# Altium integrated library Microchip PIC16 Part 1.IntLib: 1800 symbols (part 60 of 93)
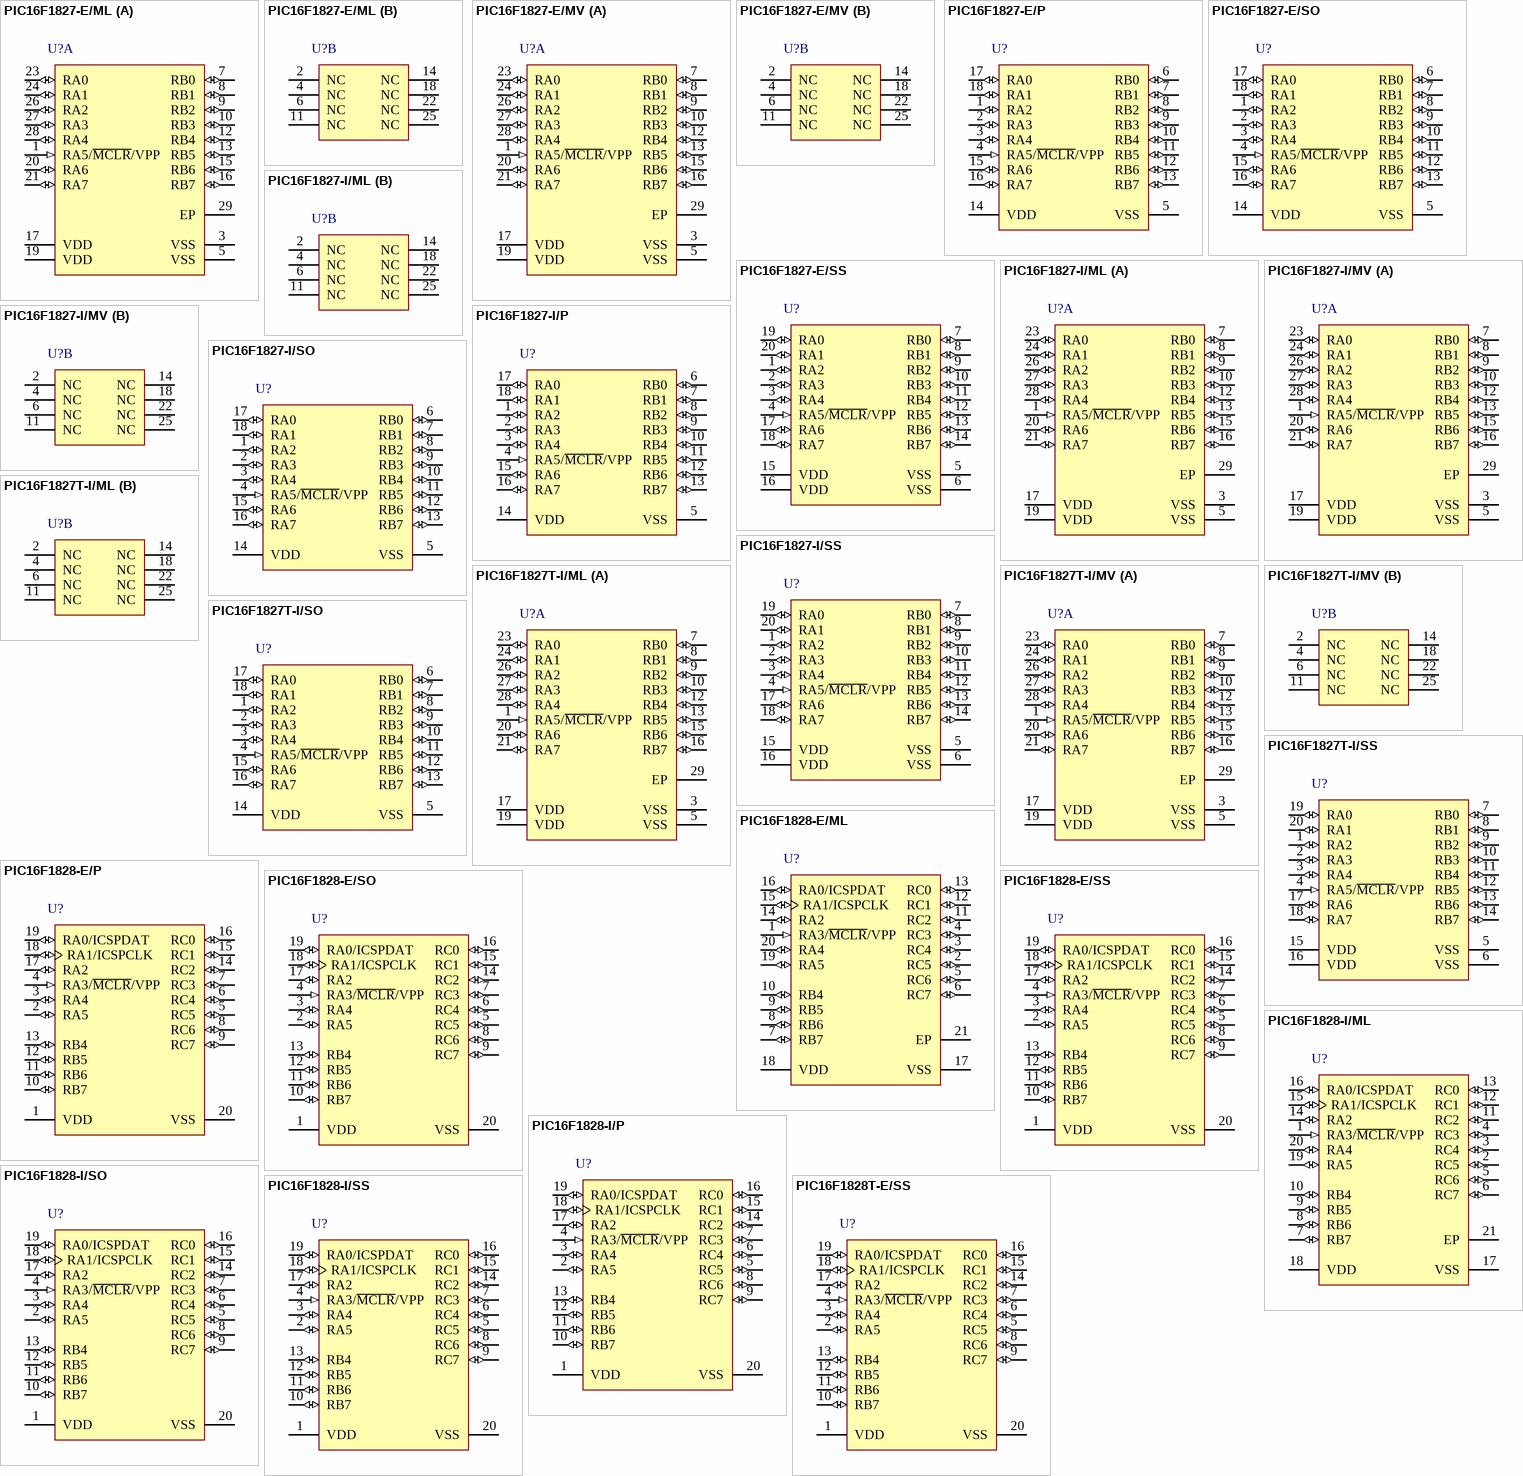
[diagram p158: symbols PIC16F1827-E/ML to PIC16F1828T-E/SS]

## PIC16F1827-I/P
designator U?
Flash Microcontroller with nanoWatt XLP Technology, 32 MHz, 15 I/O, -40 to 85 degC, 18-pin PDIP (P18), Tube; Manufacturer: Microchip; PartNumber: PIC16F1827-I/P; # of A/D Channels: 12; Digital Communication: 1 -A/E/USART, 2 -MSSP(SPI/I2C); EEPROM Data Memory (bytes): 256; I/O Pins: 15; Internal Oscillator: 32 MHz, 31 kHz; Max. CPU Speed MHz: 32; Operation Voltage Range: 1.8V - 5.5V; Program Memory KBytes: 7; Program Memory KWords: 4; RAM: 384; Timers: 4 - 8-bit, 1 - 16-bit; DatasheetVersion: Rev. D; PackageVersion: C04-007B, 12/2012; PackageReference: PDIP-P18; PackageDescription: 18-Lead Plastic Dual In-Line, Row Spacing 7.62 mm, 22.86 x 6.6 mm Body, 2.54 mm Pitch; Supplier 1: Digi-Key; Supplier Part Number 1: PIC16F1827-I/P-ND; Supplier 2: Farnell; Supplier Part Number 2: 1778449; Supplier 3: Newark; Supplier Part Number 3: 24R7078; Supplier 4: Mouser; Supplier Part Number 4: 579-PIC16F1827-I/P; Memory Type: Flash; Packing: TUBE; RoHS: TRUE; Mounting Technology: Through Hole; ComponentLink1Description: Datasheet; ComponentLink1URL: http://ww1.microchip.com/downloads/en/DeviceDoc/41391D.pdf; ComponentLink2Description: Package Specification; ComponentLink2URL: http://www.microchip.com/stellent/groups/techpub_sg/documents/packagingspec/en012702.pdf; ComponentLink3Description: URL Link1; ComponentLink3URL: Product URL:http://www.microchip.com/datasheet/PIC16F1827
footprint MCHP-PDIP-P18 (DIP, 18-Leads, Body 22.83x6.604mm, Pitch 2.54mm)
pins: 1 RA2 (io), 2 RA3 (io), 3 RA4 (io), 4 RA5/~{MCLR}/VPP (in), 5 VSS (power) "Ground reference.", 6 RB0 (io), 7 RB1 (io), 8 RB2 (io), 9 RB3 (io), 10 RB4 (io), 11 RB5 (io), 12 RB6 (io), 13 RB7 (io), 14 VDD (power) "Positive supply.", 15 RA6 (io), 16 RA7 (io), 17 RA0 (io), 18 RA1 (io)

## PIC16F1827-I/SO
designator U?
Flash Microcontroller with nanoWatt XLP Technology, 32 MHz, 15 I/O, -40 to 85 degC, 18-pin SOIC (SO18), Tube; Manufacturer: Microchip; PartNumber: PIC16F1827-I/SO; # of A/D Channels: 12; Digital Communication: 1 -A/E/USART, 2 -MSSP(SPI/I2C); EEPROM Data Memory (bytes): 256; I/O Pins: 15; Internal Oscillator: 32 MHz, 31 kHz; Max. CPU Speed MHz: 32; Operation Voltage Range: 1.8V - 5.5V; Program Memory KBytes: 7; Program Memory KWords: 4; RAM: 384; Timers: 4 - 8-bit, 1 - 16-bit; DatasheetVersion: Rev. D; PackageVersion: C04-051C, 12/2012; PackageReference: SOIC-SO18; PackageDescription: 18-Lead Plastic Small Outline, 7.5 x 11.55 mm Body, 1.27 mm Pitch; Supplier 1: Digi-Key; Supplier Part Number 1: PIC16F1827-I/SO-ND; Supplier 2: Farnell; Supplier Part Number 2: 1778450; Supplier 3: Newark; Supplier Part Number 3: 52R6172; Supplier 4: Newark; Supplier Part Number 4: 24R7079; Supplier 5: Mouser; Supplier Part Number 5: 579-PIC16F1827-I/SO; Memory Type: Flash; Packing: TUBE; RoHS: TRUE; Mounting Technology: Surface Mount; ComponentLink1Description: Datasheet; ComponentLink1URL: http://ww1.microchip.com/downloads/en/DeviceDoc/41391D.pdf; ComponentLink2Description: Package Specification; ComponentLink2URL: http://www.microchip.com/stellent/groups/techpub_sg/documents/packagingspec/en012702.pdf; ComponentLink3Description: URL Link1; ComponentLink3URL: Product URL:http://www.microchip.com/datasheet/PIC16F1827
footprint MCHP-SOIC-SO18_N (SOIC, 18-Leads, Body 11.55x7.5mm, Pitch 1.27mm, IPC Medium Density)
footprint MCHP-SOIC-SO18_L (SOIC, 18-Leads, Body 11.55x7.5mm, Pitch 1.27mm, IPC High Density)
footprint MCHP-SOIC-SO18_M (SOIC, 18-Leads, Body 11.55x7.5mm, Pitch 1.27mm, IPC Low Density)
pins: 1 RA2 (io), 2 RA3 (io), 3 RA4 (io), 4 RA5/~{MCLR}/VPP (in), 5 VSS (power) "Ground reference.", 6 RB0 (io), 7 RB1 (io), 8 RB2 (io), 9 RB3 (io), 10 RB4 (io), 11 RB5 (io), 12 RB6 (io), 13 RB7 (io), 14 VDD (power) "Positive supply.", 15 RA6 (io), 16 RA7 (io), 17 RA0 (io), 18 RA1 (io)

## PIC16F1827-I/SS
designator U?
Flash Microcontroller with nanoWatt XLP Technology, 32 MHz, 15 I/O, -40 to 85 degC, 20-pin SSOP (SS20), Tube; Manufacturer: Microchip; PartNumber: PIC16F1827-I/SS; # of A/D Channels: 12; Digital Communication: 1 -A/E/USART, 2 -MSSP(SPI/I2C); EEPROM Data Memory (bytes): 256; I/O Pins: 15; Internal Oscillator: 32 MHz, 31 kHz; Max. CPU Speed MHz: 32; Operation Voltage Range: 1.8V - 5.5V; Program Memory KBytes: 7; Program Memory KWords: 4; RAM: 384; Timers: 4 - 8-bit, 1 - 16-bit; DatasheetVersion: Rev. D; PackageVersion: C04-072B, 12/2012; PackageReference: SSOP-SS20; PackageDescription: 20-Lead Plastic Shrink Small Outline, 5.3 x 7.2 mm Body, 0.65 mm Pitch; Supplier 1: Digi-Key; Supplier Part Number 1: PIC16F1827-I/SS-ND; Supplier 2: Farnell; Supplier Part Number 2: 1778451; Supplier 3: Newark; Supplier Part Number 3: 24R7080; Supplier 4: Mouser; Supplier Part Number 4: 579-PIC16F1827-I/SS; Memory Type: Flash; Packing: TUBE; RoHS: TRUE; Mounting Technology: Surface Mount; ComponentLink1Description: Datasheet; ComponentLink1URL: http://ww1.microchip.com/downloads/en/DeviceDoc/41391D.pdf; ComponentLink2Description: Package Specification; ComponentLink2URL: http://www.microchip.com/stellent/groups/techpub_sg/documents/packagingspec/en012702.pdf; ComponentLink3Description: URL Link1; ComponentLink3URL: Product URL:http://www.microchip.com/datasheet/PIC16F1827
footprint MCHP-SSOP-SS20_N (SOP, 20-Leads, Body 7.2x5.3mm, Pitch 0.65mm, IPC Medium Density)
footprint MCHP-SSOP-SS20_L (SOP, 20-Leads, Body 7.2x5.3mm, Pitch 0.65mm, IPC High Density)
footprint MCHP-SSOP-SS20_M (SOP, 20-Leads, Body 7.2x5.3mm, Pitch 0.65mm, IPC Low Density)
pins: 1 RA2 (io), 2 RA3 (io), 3 RA4 (io), 4 RA5/~{MCLR}/VPP (in), 5 VSS (power) "Ground reference", 6 VSS (power) "Ground reference", 7 RB0 (io), 8 RB1 (io), 9 RB2 (io), 10 RB3 (io), 11 RB4 (io), 12 RB5 (io), 13 RB6 (io), 14 RB7 (io), 15 VDD (power) "Positive supply", 16 VDD (power) "Positive supply", 17 RA6 (io), 18 RA7 (io), 19 RA0 (io), 20 RA1 (io)

## PIC16F1827T-I/ML
designator U?
Flash Microcontroller with nanoWatt XLP Technology, 32 MHz, 15 I/O, -40 to 85 degC, 28-pin QFN (ML28), Tape and Reel; Manufacturer: Microchip; PartNumber: PIC16F1827T-I/ML; # of A/D Channels: 12; Digital Communication: 1 -A/E/USART, 2 -MSSP(SPI/I2C); EEPROM Data Memory (bytes): 256; I/O Pins: 15; Internal Oscillator: 32 MHz, 31 kHz; Max. CPU Speed MHz: 32; Operation Voltage Range: 1.8V - 5.5V; Packing: T/R; Program Memory KBytes: 7; Program Memory KWords: 4; RAM: 384; Timers: 4 - 8-bit, 1 - 16-bit; DatasheetVersion: Rev. D; PackageVersion: C04-105C, 12/2012; PackageReference: QFN-ML28; PackageDescription: 28-Lead Plastic Quad Flat, 6 x 6 mm Body, 0.65 mm Pitch; Supplier 1: Digi-Key; Supplier Part Number 1: PIC16F1827T-I/ML-ND; Supplier 2: Mouser; Supplier Part Number 2: 579-PIC16F1827T-I/ML; Memory Type: Flash; RoHS: TRUE; Mounting Technology: Surface Mount; ComponentLink1Description: Datasheet; ComponentLink1URL: http://ww1.microchip.com/downloads/en/DeviceDoc/41391D.pdf; ComponentLink2Description: Package Specification; ComponentLink2URL: http://www.microchip.com/stellent/groups/techpub_sg/documents/packagingspec/en012702.pdf; ComponentLink3Description: URL Link1; ComponentLink3URL: Product URL:http://www.microchip.com/datasheet/PIC16F1827
footprint MCHP-QFN-ML28_N (QFN, 28-Leads, Body 6x6mm, Pitch 0.65mm, Thermal Pad 3.7x3.7mm, IPC Medium Density)
footprint MCHP-QFN-ML28_L (QFN, 28-Leads, Body 6x6mm, Pitch 0.65mm, Thermal Pad 3.7x3.7mm, IPC High Density)
footprint MCHP-QFN-ML28_M (QFN, 28-Leads, Body 6x6mm, Pitch 0.65mm, Thermal Pad 3.7x3.7mm, IPC Low Density)
part A pins: 1 RA5/~{MCLR}/VPP (in), 3 VSS (power) "Ground reference", 5 VSS (power) "Ground reference", 7 RB0 (io), 8 RB1 (io), 9 RB2 (io), 10 RB3 (io), 12 RB4 (io), 13 RB5 (io), 15 RB6 (io), 16 RB7 (io), 17 VDD (power) "Positive supply", 19 VDD (power) "Positive supply", 20 RA6 (io), 21 RA7 (io), 23 RA0 (io), 24 RA1 (io), 26 RA2 (io), 27 RA3 (io), 28 RA4 (io), 29 EP
part B pins: 2 NC, 4 NC, 6 NC, 11 NC, 14 NC, 18 NC, 22 NC, 25 NC

## PIC16F1827T-I/MV
designator U?
Flash Microcontroller with nanoWatt XLP Technology, 32 MHz, 15 I/O, -40 to 85 degC, 28-pin UQFN (MV28), Tape and Reel; Manufacturer: Microchip; PartNumber: PIC16F1827T-I/MV; # of A/D Channels: 12; Digital Communication: 1 -A/E/USART, 2 -MSSP(SPI/I2C); EEPROM Data Memory (bytes): 256; I/O Pins: 15; Internal Oscillator: 32 MHz, 31 kHz; Max. CPU Speed MHz: 32; Operation Voltage Range: 1.8V - 5.5V; Packing: T/R; Program Memory KBytes: 7; Program Memory KWords: 4; RAM: 384; Timers: 4 - 8-bit, 1 - 16-bit; DatasheetVersion: Rev. D; PackageVersion: C04-152A, 04/2013; PackageReference: UQFN-MV28; PackageDescription: 28-Lead Plastic Ultra Thin Quad Flat, Body 4 x 4 mm, Pitch 0.4 mm; Supplier 1: Digi-Key; Supplier Part Number 1: PIC16F1827T-I/MV-ND; Supplier 2: Mouser; Supplier Part Number 2: 579-PIC16F1827T-I/MV; Memory Type: Flash; RoHS: TRUE; Mounting Technology: Surface Mount; ComponentLink1Description: Datasheet; ComponentLink1URL: http://ww1.microchip.com/downloads/en/DeviceDoc/41391D.pdf; ComponentLink2Description: Package Specification; ComponentLink2URL: http://www.microchip.com/stellent/groups/techpub_sg/documents/packagingspec/en012702.pdf; ComponentLink3Description: URL Link1; ComponentLink3URL: Product URL:http://www.microchip.com/datasheet/PIC16F1827
footprint MCHP-UQFN-MV28_N (QFN, 28-Leads, Body 4x4mm, Pitch 0.4mm, Thermal Pad 2.65x2.65mm, IPC Medium Density)
footprint MCHP-UQFN-MV28_L (QFN, 28-Leads, Body 4x4mm, Pitch 0.4mm, Thermal Pad 2.65x2.65mm, IPC High Density)
footprint MCHP-UQFN-MV28_M (QFN, 28-Leads, Body 4x4mm, Pitch 0.4mm, Thermal Pad 2.65x2.65mm, IPC Low Density)
part A pins: 1 RA5/~{MCLR}/VPP (in), 3 VSS (power) "Ground reference", 5 VSS (power) "Ground reference", 7 RB0 (io), 8 RB1 (io), 9 RB2 (io), 10 RB3 (io), 12 RB4 (io), 13 RB5 (io), 15 RB6 (io), 16 RB7 (io), 17 VDD (power) "Positive supply", 19 VDD (power) "Positive supply", 20 RA6 (io), 21 RA7 (io), 23 RA0 (io), 24 RA1 (io), 26 RA2 (io), 27 RA3 (io), 28 RA4 (io), 29 EP
part B pins: 2 NC, 4 NC, 6 NC, 11 NC, 14 NC, 18 NC, 22 NC, 25 NC

## PIC16F1827T-I/SO
designator U?
Flash Microcontroller with nanoWatt XLP Technology, 32 MHz, 15 I/O, -40 to 85 degC, 18-pin SOIC (SO18), Tape and Reel; Manufacturer: Microchip; PartNumber: PIC16F1827T-I/SO; # of A/D Channels: 12; Digital Communication: 1 -A/E/USART, 2 -MSSP(SPI/I2C); EEPROM Data Memory (bytes): 256; I/O Pins: 15; Internal Oscillator: 32 MHz, 31 kHz; Max. CPU Speed MHz: 32; Operation Voltage Range: 1.8V - 5.5V; Packing: T/R; Program Memory KBytes: 7; Program Memory KWords: 4; RAM: 384; Timers: 4 - 8-bit, 1 - 16-bit; DatasheetVersion: Rev. D; PackageVersion: C04-051C, 12/2012; PackageReference: SOIC-SO18; PackageDescription: 18-Lead Plastic Small Outline, 7.5 x 11.55 mm Body, 1.27 mm Pitch; Supplier 1: Digi-Key; Supplier Part Number 1: PIC16F1827T-I/SO-ND; Supplier 2: Mouser; Supplier Part Number 2: 579-PIC16F1827T-I/SO; Memory Type: Flash; RoHS: TRUE; Mounting Technology: Surface Mount; ComponentLink1Description: Datasheet; ComponentLink1URL: http://ww1.microchip.com/downloads/en/DeviceDoc/41391D.pdf; ComponentLink2Description: Package Specification; ComponentLink2URL: http://www.microchip.com/stellent/groups/techpub_sg/documents/packagingspec/en012702.pdf; ComponentLink3Description: URL Link1; ComponentLink3URL: Product URL:http://www.microchip.com/datasheet/PIC16F1827
footprint MCHP-SOIC-SO18_N (SOIC, 18-Leads, Body 11.55x7.5mm, Pitch 1.27mm, IPC Medium Density)
footprint MCHP-SOIC-SO18_L (SOIC, 18-Leads, Body 11.55x7.5mm, Pitch 1.27mm, IPC High Density)
footprint MCHP-SOIC-SO18_M (SOIC, 18-Leads, Body 11.55x7.5mm, Pitch 1.27mm, IPC Low Density)
pins: 1 RA2 (io), 2 RA3 (io), 3 RA4 (io), 4 RA5/~{MCLR}/VPP (in), 5 VSS (power) "Ground reference.", 6 RB0 (io), 7 RB1 (io), 8 RB2 (io), 9 RB3 (io), 10 RB4 (io), 11 RB5 (io), 12 RB6 (io), 13 RB7 (io), 14 VDD (power) "Positive supply.", 15 RA6 (io), 16 RA7 (io), 17 RA0 (io), 18 RA1 (io)

## PIC16F1827T-I/SS
designator U?
Flash Microcontroller with nanoWatt XLP Technology, 32 MHz, 15 I/O, -40 to 85 degC, 20-pin SSOP (SS20), Tape and Reel; Manufacturer: Microchip; PartNumber: PIC16F1827T-I/SS; # of A/D Channels: 12; Digital Communication: 1 -A/E/USART, 2 -MSSP(SPI/I2C); EEPROM Data Memory (bytes): 256; I/O Pins: 15; Internal Oscillator: 32 MHz, 31 kHz; Max. CPU Speed MHz: 32; Operation Voltage Range: 1.8V - 5.5V; Packing: T/R; Program Memory KBytes: 7; Program Memory KWords: 4; RAM: 384; Timers: 4 - 8-bit, 1 - 16-bit; DatasheetVersion: Rev. D; PackageVersion: C04-072B, 12/2012; PackageReference: SSOP-SS20; PackageDescription: 20-Lead Plastic Shrink Small Outline, 5.3 x 7.2 mm Body, 0.65 mm Pitch; Supplier 1: Digi-Key; Supplier Part Number 1: PIC16F1827T-I/SS-ND; Supplier 2: Newark; Supplier Part Number 2: 24R7084; Supplier 3: Mouser; Supplier Part Number 3: 579-PIC16F1827T-I/SS; Memory Type: Flash; RoHS: TRUE; Mounting Technology: Surface Mount; ComponentLink1Description: Datasheet; ComponentLink1URL: http://ww1.microchip.com/downloads/en/DeviceDoc/41391D.pdf; ComponentLink2Description: Package Specification; ComponentLink2URL: http://www.microchip.com/stellent/groups/techpub_sg/documents/packagingspec/en012702.pdf; ComponentLink3Description: URL Link1; ComponentLink3URL: Product URL:http://www.microchip.com/datasheet/PIC16F1827
footprint MCHP-SSOP-SS20_N (SOP, 20-Leads, Body 7.2x5.3mm, Pitch 0.65mm, IPC Medium Density)
footprint MCHP-SSOP-SS20_L (SOP, 20-Leads, Body 7.2x5.3mm, Pitch 0.65mm, IPC High Density)
footprint MCHP-SSOP-SS20_M (SOP, 20-Leads, Body 7.2x5.3mm, Pitch 0.65mm, IPC Low Density)
pins: 1 RA2 (io), 2 RA3 (io), 3 RA4 (io), 4 RA5/~{MCLR}/VPP (in), 5 VSS (power) "Ground reference", 6 VSS (power) "Ground reference", 7 RB0 (io), 8 RB1 (io), 9 RB2 (io), 10 RB3 (io), 11 RB4 (io), 12 RB5 (io), 13 RB6 (io), 14 RB7 (io), 15 VDD (power) "Positive supply", 16 VDD (power) "Positive supply", 17 RA6 (io), 18 RA7 (io), 19 RA0 (io), 20 RA1 (io)

## PIC16F1828-E/ML
designator U?
Flash Microcontroller with XLP Technology, 32 MHz, 17 I/O, -40 to 125 degC, 20-pin QFN (ML20), Tube; Manufacturer: Microchip; PartNumber: PIC16F1828-E/ML; # of A/D Channels: 12; Digital Communication: 1 -A/E/USART, 1 -MSSP(SPI/I2C); EEPROM Data Memory (bytes): 256; I/O Pins: 17; Internal Oscillator: 32 MHz, 31 kHz; Max. CPU Speed MHz: 32; Operation Voltage Range: 1.8V - 5.5V; Program Memory KBytes: 7; Program Memory KWords: 4; Timers: 4 - 8-bit, 1 - 16-bit; DatasheetVersion: Rev. D; PackageVersion: C04-126B, 12/2012; PackageReference: QFN-ML20; PackageDescription: 20-Lead Plastic Quad Flat, No Lead Package, 4 x 4 mm Body, 0.5 mm Pitch; Supplier 1: Digi-Key; Supplier Part Number 1: PIC16F1828-E/ML-ND; Supplier 2: Newark; Supplier Part Number 2: 73R8378; Supplier 3: Mouser; Supplier Part Number 3: 579-PIC16F1828EML; Memory Type: Flash; Packing: TUBE; RAM: 256; RoHS: TRUE; Mounting Technology: Surface Mount; ComponentLink1Description: Datasheet; ComponentLink1URL: http://ww1.microchip.com/downloads/en/DeviceDoc/41419D.pdf; ComponentLink2Description: Package Specification; ComponentLink2URL: http://www.microchip.com/stellent/groups/techpub_sg/documents/packagingspec/en012702.pdf; ComponentLink3Description: URL Link1; ComponentLink3URL: Product URL:http://www.microchip.com/datasheet/PIC16F1828
footprint MCHP-QFN-ML20_N (QFN, 20-Leads, Body 4x4mm, Pitch 0.5mm, Thermal Pad 2.7x2.7mm, IPC Medium Density)
footprint MCHP-QFN-ML20_L (QFN, 20-Leads, Body 4x4mm, Pitch 0.5mm, Thermal Pad 2.7x2.7mm, IPC High Density)
footprint MCHP-QFN-ML20_M (QFN, 20-Leads, Body 4x4mm, Pitch 0.5mm, Thermal Pad 2.7x2.7mm, IPC Low Density)
pins: 1 RA3/~{MCLR}/VPP (in), 2 RC5 (io), 3 RC4 (io), 4 RC3 (io), 5 RC6 (io), 6 RC7 (io), 7 RB7 (io), 8 RB6 (io), 9 RB5 (io), 10 RB4 (io), 11 RC2 (io), 12 RC1 (io), 13 RC0 (io), 14 RA2 (io), 15 RA1/ICSPCLK (io), 16 RA0/ICSPDAT (io), 17 VSS (power) "Ground reference.", 18 VDD (power) "Positive supply.", 19 RA5 (io), 20 RA4 (io), 21 EP

## PIC16F1828-E/P
designator U?
Flash Microcontroller with XLP Technology, 32 MHz, 17 I/O, -40 to 125 degC, 20-pin PDIP (P20), Tube; Manufacturer: Microchip; PartNumber: PIC16F1828-E/P; # of A/D Channels: 12; Digital Communication: 1 -A/E/USART, 1 -MSSP(SPI/I2C); EEPROM Data Memory (bytes): 256; I/O Pins: 17; Internal Oscillator: 32 MHz, 31 kHz; Max. CPU Speed MHz: 32; Operation Voltage Range: 1.8V - 5.5V; Program Memory KBytes: 7; Program Memory KWords: 4; Timers: 4 - 8-bit, 1 - 16-bit; DatasheetVersion: Rev. D; PackageVersion: C04-019B, 12/2012; PackageReference: PDIP-P20; PackageDescription: 20-Lead Plastic Dual In-Line, Row Spacing 7.62 mm, 25.91 x 6.6 mm Body, 2.54 mm Pitch; Supplier 1: Digi-Key; Supplier Part Number 1: PIC16F1828-E/P-ND; Supplier 2: Mouser; Supplier Part Number 2: 579-PIC16F1828EP; Memory Type: Flash; Packing: TUBE; RAM: 256; RoHS: TRUE; Mounting Technology: Through Hole; ComponentLink1Description: Datasheet; ComponentLink1URL: http://ww1.microchip.com/downloads/en/DeviceDoc/41419D.pdf; ComponentLink2Description: Package Specification; ComponentLink2URL: http://www.microchip.com/stellent/groups/techpub_sg/documents/packagingspec/en012702.pdf; ComponentLink3Description: URL Link1; ComponentLink3URL: Product URL:http://www.microchip.com/datasheet/PIC16F1828
footprint MCHP-PDIP-P20 (DIP, 20-Leads, Body 25.91x6.6mm, Pitch 2.54mm)
pins: 1 VDD (power) "Positive supply.", 2 RA5 (io), 3 RA4 (io), 4 RA3/~{MCLR}/VPP (in), 5 RC5 (io), 6 RC4 (io), 7 RC3 (io), 8 RC6 (io), 9 RC7 (io), 10 RB7 (io), 11 RB6 (io), 12 RB5 (io), 13 RB4 (io), 14 RC2 (io), 15 RC1 (io), 16 RC0 (io), 17 RA2 (io), 18 RA1/ICSPCLK (io), 19 RA0/ICSPDAT (io), 20 VSS (power) "Ground reference."

## PIC16F1828-E/SO
designator U?
Flash Microcontroller with XLP Technology, 32 MHz, 17 I/O, -40 to 125 degC, 20-pin SOIC (SO20), Tube; Manufacturer: Microchip; PartNumber: PIC16F1828-E/SO; # of A/D Channels: 12; Digital Communication: 1 -A/E/USART, 1 -MSSP(SPI/I2C); EEPROM Data Memory (bytes): 256; I/O Pins: 17; Internal Oscillator: 32 MHz, 31 kHz; Max. CPU Speed MHz: 32; Operation Voltage Range: 1.8V - 5.5V; Program Memory KBytes: 7; Program Memory KWords: 4; Timers: 4 - 8-bit, 1 - 16-bit; DatasheetVersion: Rev. D; PackageVersion: C04-094C, 12/2012; PackageReference: SOIC-SO20; PackageDescription: 20-Lead Plastic Small Outline, 7.5 x 12.8 mm Body, 1.27 mm Pitch; Supplier 1: Digi-Key; Supplier Part Number 1: PIC16F1828-E/SO-ND; Supplier 2: Newark; Supplier Part Number 2: 73R8380; Supplier 3: Mouser; Supplier Part Number 3: 579-PIC16F1828ESO; Memory Type: Flash; Packing: TUBE; RAM: 256; RoHS: TRUE; Mounting Technology: Surface Mount; ComponentLink1Description: Datasheet; ComponentLink1URL: http://ww1.microchip.com/downloads/en/DeviceDoc/41419D.pdf; ComponentLink2Description: Package Specification; ComponentLink2URL: http://www.microchip.com/stellent/groups/techpub_sg/documents/packagingspec/en012702.pdf; ComponentLink3Description: URL Link1; ComponentLink3URL: Product URL:http://www.microchip.com/datasheet/PIC16F1828
footprint MCHP-SOIC-SO20_N (SOIC, 20-Leads, Body 12.8x7.5mm, Pitch 1.27mm, IPC Medium Density)
footprint MCHP-SOIC-SO20_L (SOIC, 20-Leads, Body 12.8x7.5mm, Pitch 1.27mm, IPC High Density)
footprint MCHP-SOIC-SO20_M (SOIC, 20-Leads, Body 12.8x7.5mm, Pitch 1.27mm, IPC Low Density)
pins: 1 VDD (power) "Positive supply.", 2 RA5 (io), 3 RA4 (io), 4 RA3/~{MCLR}/VPP (in), 5 RC5 (io), 6 RC4 (io), 7 RC3 (io), 8 RC6 (io), 9 RC7 (io), 10 RB7 (io), 11 RB6 (io), 12 RB5 (io), 13 RB4 (io), 14 RC2 (io), 15 RC1 (io), 16 RC0 (io), 17 RA2 (io), 18 RA1/ICSPCLK (io), 19 RA0/ICSPDAT (io), 20 VSS (power) "Ground reference."

## PIC16F1828-E/SS
designator U?
Flash Microcontroller with XLP Technology, 32 MHz, 17 I/O, -40 to 125 degC, 20-pin SSOP (SS20), Tube; Manufacturer: Microchip; PartNumber: PIC16F1828-E/SS; # of A/D Channels: 12; Digital Communication: 1 -A/E/USART, 1 -MSSP(SPI/I2C); EEPROM Data Memory (bytes): 256; I/O Pins: 17; Internal Oscillator: 32 MHz, 31 kHz; Max. CPU Speed MHz: 32; Operation Voltage Range: 1.8V - 5.5V; Program Memory KBytes: 7; Program Memory KWords: 4; Timers: 4 - 8-bit, 1 - 16-bit; DatasheetVersion: Rev. D; PackageVersion: C04-072B, 12/2012; PackageReference: SSOP-SS20; PackageDescription: 20-Lead Plastic Shrink Small Outline, 5.3 x 7.2 mm Body, 0.65 mm Pitch; Supplier 1: Digi-Key; Supplier Part Number 1: PIC16F1828-E/SS-ND; Supplier 2: Newark; Supplier Part Number 2: 73R8381; Supplier 3: Mouser; Supplier Part Number 3: 579-PIC16F1828ESS; Memory Type: Flash; Packing: TUBE; RAM: 256; RoHS: TRUE; Mounting Technology: Surface Mount; ComponentLink1Description: Datasheet; ComponentLink1URL: http://ww1.microchip.com/downloads/en/DeviceDoc/41419D.pdf; ComponentLink2Description: Package Specification; ComponentLink2URL: http://www.microchip.com/stellent/groups/techpub_sg/documents/packagingspec/en012702.pdf; ComponentLink3Description: URL Link1; ComponentLink3URL: Product URL:http://www.microchip.com/datasheet/PIC16F1828
footprint MCHP-SSOP-SS20_N (SOP, 20-Leads, Body 7.2x5.3mm, Pitch 0.65mm, IPC Medium Density)
footprint MCHP-SSOP-SS20_L (SOP, 20-Leads, Body 7.2x5.3mm, Pitch 0.65mm, IPC High Density)
footprint MCHP-SSOP-SS20_M (SOP, 20-Leads, Body 7.2x5.3mm, Pitch 0.65mm, IPC Low Density)
pins: 1 VDD (power) "Positive supply.", 2 RA5 (io), 3 RA4 (io), 4 RA3/~{MCLR}/VPP (in), 5 RC5 (io), 6 RC4 (io), 7 RC3 (io), 8 RC6 (io), 9 RC7 (io), 10 RB7 (io), 11 RB6 (io), 12 RB5 (io), 13 RB4 (io), 14 RC2 (io), 15 RC1 (io), 16 RC0 (io), 17 RA2 (io), 18 RA1/ICSPCLK (io), 19 RA0/ICSPDAT (io), 20 VSS (power) "Ground reference."

## PIC16F1828-I/ML
designator U?
Flash Microcontroller with XLP Technology, 32 MHz, 17 I/O, -40 to 85 degC, 20-pin QFN (ML20), Tube; Manufacturer: Microchip; PartNumber: PIC16F1828-I/ML; # of A/D Channels: 12; Digital Communication: 1 -A/E/USART, 1 -MSSP(SPI/I2C); EEPROM Data Memory (bytes): 256; I/O Pins: 17; Internal Oscillator: 32 MHz, 31 kHz; Max. CPU Speed MHz: 32; Operation Voltage Range: 1.8V - 5.5V; Program Memory KBytes: 7; Program Memory KWords: 4; Timers: 4 - 8-bit, 1 - 16-bit; DatasheetVersion: Rev. D; PackageVersion: C04-126B, 12/2012; PackageReference: QFN-ML20; PackageDescription: 20-Lead Plastic Quad Flat, No Lead Package, 4 x 4 mm Body, 0.5 mm Pitch; Supplier 1: Digi-Key; Supplier Part Number 1: PIC16F1828-I/ML-ND; Supplier 2: Farnell; Supplier Part Number 2: 1814924; Supplier 3: Newark; Supplier Part Number 3: 73R8382; Supplier 4: Newark; Supplier Part Number 4: 75R2752; Supplier 5: Mouser; Supplier Part Number 5: 579-PIC16F1828IML; Memory Type: Flash; Packing: TUBE; RAM: 256; RoHS: TRUE; Mounting Technology: Surface Mount; ComponentLink1Description: Datasheet; ComponentLink1URL: http://ww1.microchip.com/downloads/en/DeviceDoc/41419D.pdf; ComponentLink2Description: Package Specification; ComponentLink2URL: http://www.microchip.com/stellent/groups/techpub_sg/documents/packagingspec/en012702.pdf; ComponentLink3Description: URL Link1; ComponentLink3URL: Product URL:http://www.microchip.com/datasheet/PIC16F1828
footprint MCHP-QFN-ML20_N (QFN, 20-Leads, Body 4x4mm, Pitch 0.5mm, Thermal Pad 2.7x2.7mm, IPC Medium Density)
footprint MCHP-QFN-ML20_L (QFN, 20-Leads, Body 4x4mm, Pitch 0.5mm, Thermal Pad 2.7x2.7mm, IPC High Density)
footprint MCHP-QFN-ML20_M (QFN, 20-Leads, Body 4x4mm, Pitch 0.5mm, Thermal Pad 2.7x2.7mm, IPC Low Density)
pins: 1 RA3/~{MCLR}/VPP (in), 2 RC5 (io), 3 RC4 (io), 4 RC3 (io), 5 RC6 (io), 6 RC7 (io), 7 RB7 (io), 8 RB6 (io), 9 RB5 (io), 10 RB4 (io), 11 RC2 (io), 12 RC1 (io), 13 RC0 (io), 14 RA2 (io), 15 RA1/ICSPCLK (io), 16 RA0/ICSPDAT (io), 17 VSS (power) "Ground reference.", 18 VDD (power) "Positive supply.", 19 RA5 (io), 20 RA4 (io), 21 EP

## PIC16F1828-I/P
designator U?
Flash Microcontroller with XLP Technology, 32 MHz, 17 I/O, -40 to 85 degC, 20-pin PDIP (P20), Tube; Manufacturer: Microchip; PartNumber: PIC16F1828-I/P; # of A/D Channels: 12; Digital Communication: 1 -A/E/USART, 1 -MSSP(SPI/I2C); EEPROM Data Memory (bytes): 256; I/O Pins: 17; Internal Oscillator: 32 MHz, 31 kHz; Max. CPU Speed MHz: 32; Operation Voltage Range: 1.8V - 5.5V; Program Memory KBytes: 7; Program Memory KWords: 4; Timers: 4 - 8-bit, 1 - 16-bit; DatasheetVersion: Rev. D; PackageVersion: C04-019B, 12/2012; PackageReference: PDIP-P20; PackageDescription: 20-Lead Plastic Dual In-Line, Row Spacing 7.62 mm, 25.91 x 6.6 mm Body, 2.54 mm Pitch; Supplier 1: Digi-Key; Supplier Part Number 1: PIC16F1828-I/P-ND; Supplier 2: Farnell; Supplier Part Number 2: 1814925; Supplier 3: Newark; Supplier Part Number 3: 73R8383; Supplier 4: Mouser; Supplier Part Number 4: 579-PIC16F1828IP; Memory Type: Flash; Packing: TUBE; RAM: 256; RoHS: TRUE; Mounting Technology: Through Hole; ComponentLink1Description: Datasheet; ComponentLink1URL: http://ww1.microchip.com/downloads/en/DeviceDoc/41419D.pdf; ComponentLink2Description: Package Specification; ComponentLink2URL: http://www.microchip.com/stellent/groups/techpub_sg/documents/packagingspec/en012702.pdf; ComponentLink3Description: URL Link1; ComponentLink3URL: Product URL:http://www.microchip.com/datasheet/PIC16F1828
footprint MCHP-PDIP-P20 (DIP, 20-Leads, Body 25.91x6.6mm, Pitch 2.54mm)
pins: 1 VDD (power) "Positive supply.", 2 RA5 (io), 3 RA4 (io), 4 RA3/~{MCLR}/VPP (in), 5 RC5 (io), 6 RC4 (io), 7 RC3 (io), 8 RC6 (io), 9 RC7 (io), 10 RB7 (io), 11 RB6 (io), 12 RB5 (io), 13 RB4 (io), 14 RC2 (io), 15 RC1 (io), 16 RC0 (io), 17 RA2 (io), 18 RA1/ICSPCLK (io), 19 RA0/ICSPDAT (io), 20 VSS (power) "Ground reference."

## PIC16F1828-I/SO
designator U?
Flash Microcontroller with XLP Technology, 32 MHz, 17 I/O, -40 to 85 degC, 20-pin SOIC (SO20), Tube; Manufacturer: Microchip; PartNumber: PIC16F1828-I/SO; # of A/D Channels: 12; Digital Communication: 1 -A/E/USART, 1 -MSSP(SPI/I2C); EEPROM Data Memory (bytes): 256; I/O Pins: 17; Internal Oscillator: 32 MHz, 31 kHz; Max. CPU Speed MHz: 32; Operation Voltage Range: 1.8V - 5.5V; Program Memory KBytes: 7; Program Memory KWords: 4; Timers: 4 - 8-bit, 1 - 16-bit; DatasheetVersion: Rev. D; PackageVersion: C04-094C, 12/2012; PackageReference: SOIC-SO20; PackageDescription: 20-Lead Plastic Small Outline, 7.5 x 12.8 mm Body, 1.27 mm Pitch; Supplier 1: Digi-Key; Supplier Part Number 1: PIC16F1828-I/SO-ND; Supplier 2: Farnell; Supplier Part Number 2: 1814926; Supplier 3: Newark; Supplier Part Number 3: 73R8384; Supplier 4: Mouser; Supplier Part Number 4: 579-PIC16F1828ISO; Memory Type: Flash; Packing: TUBE; RAM: 256; RoHS: TRUE; Mounting Technology: Surface Mount; ComponentLink1Description: Datasheet; ComponentLink1URL: http://ww1.microchip.com/downloads/en/DeviceDoc/41419D.pdf; ComponentLink2Description: Package Specification; ComponentLink2URL: http://www.microchip.com/stellent/groups/techpub_sg/documents/packagingspec/en012702.pdf; ComponentLink3Description: URL Link1; ComponentLink3URL: Product URL:http://www.microchip.com/datasheet/PIC16F1828
footprint MCHP-SOIC-SO20_N (SOIC, 20-Leads, Body 12.8x7.5mm, Pitch 1.27mm, IPC Medium Density)
footprint MCHP-SOIC-SO20_L (SOIC, 20-Leads, Body 12.8x7.5mm, Pitch 1.27mm, IPC High Density)
footprint MCHP-SOIC-SO20_M (SOIC, 20-Leads, Body 12.8x7.5mm, Pitch 1.27mm, IPC Low Density)
pins: 1 VDD (power) "Positive supply.", 2 RA5 (io), 3 RA4 (io), 4 RA3/~{MCLR}/VPP (in), 5 RC5 (io), 6 RC4 (io), 7 RC3 (io), 8 RC6 (io), 9 RC7 (io), 10 RB7 (io), 11 RB6 (io), 12 RB5 (io), 13 RB4 (io), 14 RC2 (io), 15 RC1 (io), 16 RC0 (io), 17 RA2 (io), 18 RA1/ICSPCLK (io), 19 RA0/ICSPDAT (io), 20 VSS (power) "Ground reference."

## PIC16F1828-I/SS
designator U?
Flash Microcontroller with XLP Technology, 32 MHz, 17 I/O, -40 to 85 degC, 20-pin SSOP (SS20), Tube; Manufacturer: Microchip; PartNumber: PIC16F1828-I/SS; # of A/D Channels: 12; Digital Communication: 1 -A/E/USART, 1 -MSSP(SPI/I2C); EEPROM Data Memory (bytes): 256; I/O Pins: 17; Internal Oscillator: 32 MHz, 31 kHz; Max. CPU Speed MHz: 32; Operation Voltage Range: 1.8V - 5.5V; Program Memory KBytes: 7; Program Memory KWords: 4; Timers: 4 - 8-bit, 1 - 16-bit; DatasheetVersion: Rev. D; PackageVersion: C04-072B, 12/2012; PackageReference: SSOP-SS20; PackageDescription: 20-Lead Plastic Shrink Small Outline, 5.3 x 7.2 mm Body, 0.65 mm Pitch; Supplier 1: Digi-Key; Supplier Part Number 1: PIC16F1828-I/SS-ND; Supplier 2: Farnell; Supplier Part Number 2: 1814927; Supplier 3: Newark; Supplier Part Number 3: 73R8385; Supplier 4: Mouser; Supplier Part Number 4: 579-PIC16F1828ISS; Memory Type: Flash; Packing: TUBE; RAM: 256; RoHS: TRUE; Mounting Technology: Surface Mount; ComponentLink1Description: Datasheet; ComponentLink1URL: http://ww1.microchip.com/downloads/en/DeviceDoc/41419D.pdf; ComponentLink2Description: Package Specification; ComponentLink2URL: http://www.microchip.com/stellent/groups/techpub_sg/documents/packagingspec/en012702.pdf; ComponentLink3Description: URL Link1; ComponentLink3URL: Product URL:http://www.microchip.com/datasheet/PIC16F1828
footprint MCHP-SSOP-SS20_N (SOP, 20-Leads, Body 7.2x5.3mm, Pitch 0.65mm, IPC Medium Density)
footprint MCHP-SSOP-SS20_L (SOP, 20-Leads, Body 7.2x5.3mm, Pitch 0.65mm, IPC High Density)
footprint MCHP-SSOP-SS20_M (SOP, 20-Leads, Body 7.2x5.3mm, Pitch 0.65mm, IPC Low Density)
pins: 1 VDD (power) "Positive supply.", 2 RA5 (io), 3 RA4 (io), 4 RA3/~{MCLR}/VPP (in), 5 RC5 (io), 6 RC4 (io), 7 RC3 (io), 8 RC6 (io), 9 RC7 (io), 10 RB7 (io), 11 RB6 (io), 12 RB5 (io), 13 RB4 (io), 14 RC2 (io), 15 RC1 (io), 16 RC0 (io), 17 RA2 (io), 18 RA1/ICSPCLK (io), 19 RA0/ICSPDAT (io), 20 VSS (power) "Ground reference."

## PIC16F1828T-E/SS
designator U?
Flash Microcontroller with XLP Technology, 32 MHz, 17 I/O, -40 to 125 degC, 20-pin SSOP (SS20), Tape and Reel; Manufacturer: Microchip; PartNumber: PIC16F1828T-E/SS; # of A/D Channels: 12; Digital Communication: 1 -A/E/USART, 1 -MSSP(SPI/I2C); EEPROM Data Memory (bytes): 256; I/O Pins: 17; Internal Oscillator: 32 MHz, 31 kHz; Max. CPU Speed MHz: 32; Operation Voltage Range: 1.8V - 5.5V; Packing: T/R; Program Memory KBytes: 7; Program Memory KWords: 4; Timers: 4 - 8-bit, 1 - 16-bit; DatasheetVersion: Rev. D; PackageVersion: C04-072B, 12/2012; PackageReference: SSOP-SS20; PackageDescription: 20-Lead Plastic Shrink Small Outline, 5.3 x 7.2 mm Body, 0.65 mm Pitch; Memory Type: Flash; RAM: 256; RoHS: TRUE; Mounting Technology: Surface Mount; ComponentLink1Description: Datasheet; ComponentLink1URL: http://ww1.microchip.com/downloads/en/DeviceDoc/41419D.pdf; ComponentLink2Description: Package Specification; ComponentLink2URL: http://www.microchip.com/stellent/groups/techpub_sg/documents/packagingspec/en012702.pdf; ComponentLink3Description: URL Link1; ComponentLink3URL: Product URL:http://www.microchip.com/datasheet/PIC16F1828
footprint MCHP-SSOP-SS20_N (SOP, 20-Leads, Body 7.2x5.3mm, Pitch 0.65mm, IPC Medium Density)
footprint MCHP-SSOP-SS20_L (SOP, 20-Leads, Body 7.2x5.3mm, Pitch 0.65mm, IPC High Density)
footprint MCHP-SSOP-SS20_M (SOP, 20-Leads, Body 7.2x5.3mm, Pitch 0.65mm, IPC Low Density)
pins: 1 VDD (power) "Positive supply.", 2 RA5 (io), 3 RA4 (io), 4 RA3/~{MCLR}/VPP (in), 5 RC5 (io), 6 RC4 (io), 7 RC3 (io), 8 RC6 (io), 9 RC7 (io), 10 RB7 (io), 11 RB6 (io), 12 RB5 (io), 13 RB4 (io), 14 RC2 (io), 15 RC1 (io), 16 RC0 (io), 17 RA2 (io), 18 RA1/ICSPCLK (io), 19 RA0/ICSPDAT (io), 20 VSS (power) "Ground reference."

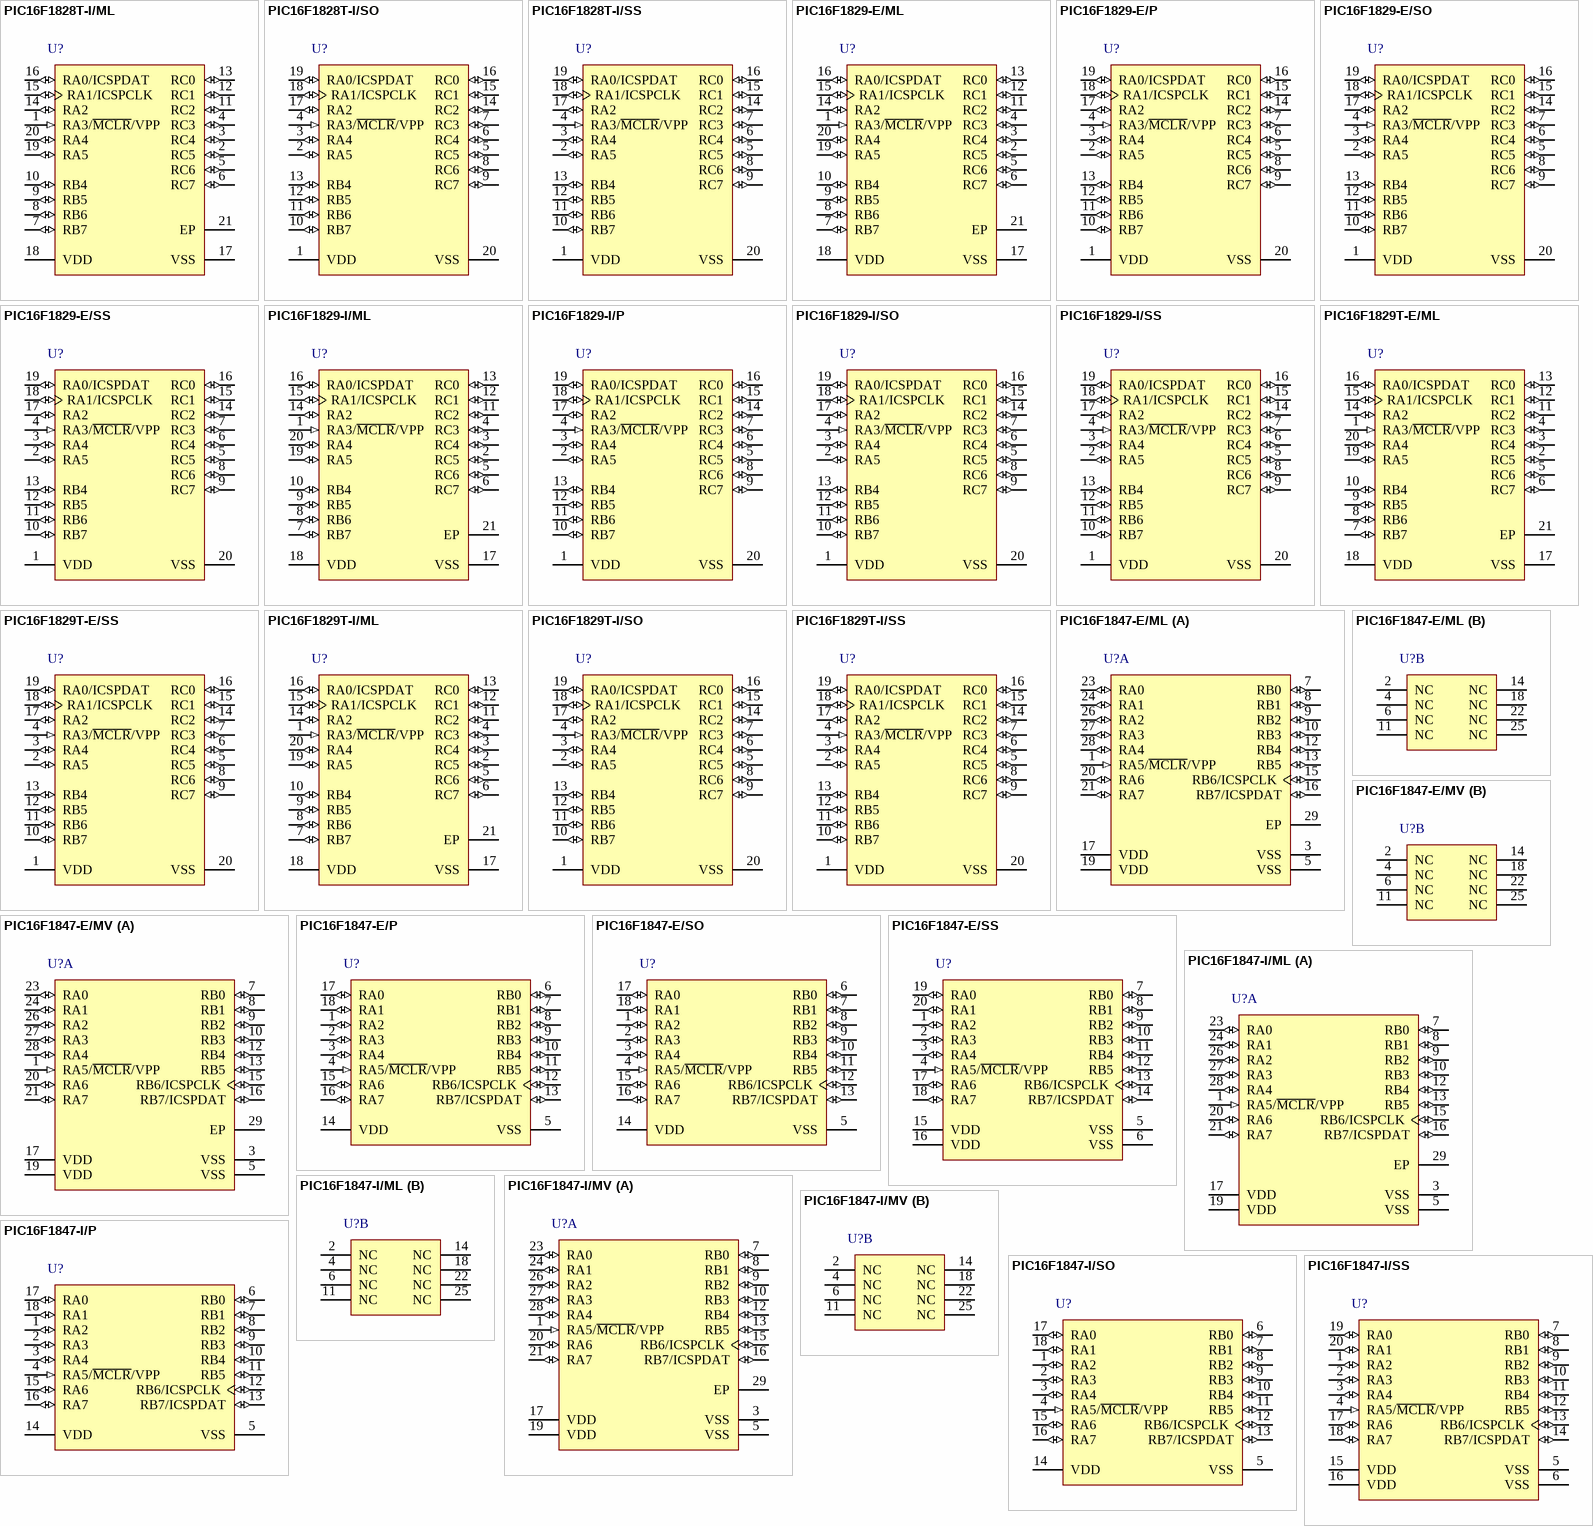
[diagram p61: symbols PIC16F1828T-I/ML to PIC16F1847-I/SS]

## PIC16F1828T-I/ML
designator U?
Flash Microcontroller with XLP Technology, 32 MHz, 17 I/O, -40 to 85 degC, 20-pin QFN (ML20), Tape and Reel; Manufacturer: Microchip; PartNumber: PIC16F1828T-I/ML; # of A/D Channels: 12; Digital Communication: 1 -A/E/USART, 1 -MSSP(SPI/I2C); EEPROM Data Memory (bytes): 256; I/O Pins: 17; Internal Oscillator: 32 MHz, 31 kHz; Max. CPU Speed MHz: 32; Operation Voltage Range: 1.8V - 5.5V; Packing: T/R; Program Memory KBytes: 7; Program Memory KWords: 4; Timers: 4 - 8-bit, 1 - 16-bit; DatasheetVersion: Rev. D; PackageVersion: C04-126B, 12/2012; PackageReference: QFN-ML20; PackageDescription: 20-Lead Plastic Quad Flat, No Lead Package, 4 x 4 mm Body, 0.5 mm Pitch; Supplier 1: Digi-Key; Supplier Part Number 1: PIC16F1828T-I/ML-ND; Supplier 2: Mouser; Supplier Part Number 2: 579-PIC16F1828TIML; Memory Type: Flash; RAM: 256; RoHS: TRUE; Mounting Technology: Surface Mount; ComponentLink1Description: Datasheet; ComponentLink1URL: http://ww1.microchip.com/downloads/en/DeviceDoc/41419D.pdf; ComponentLink2Description: Package Specification; ComponentLink2URL: http://www.microchip.com/stellent/groups/techpub_sg/documents/packagingspec/en012702.pdf; ComponentLink3Description: URL Link1; ComponentLink3URL: Product URL:http://www.microchip.com/datasheet/PIC16F1828
footprint MCHP-QFN-ML20_N (QFN, 20-Leads, Body 4x4mm, Pitch 0.5mm, Thermal Pad 2.7x2.7mm, IPC Medium Density)
footprint MCHP-QFN-ML20_L (QFN, 20-Leads, Body 4x4mm, Pitch 0.5mm, Thermal Pad 2.7x2.7mm, IPC High Density)
footprint MCHP-QFN-ML20_M (QFN, 20-Leads, Body 4x4mm, Pitch 0.5mm, Thermal Pad 2.7x2.7mm, IPC Low Density)
pins: 1 RA3/~{MCLR}/VPP (in), 2 RC5 (io), 3 RC4 (io), 4 RC3 (io), 5 RC6 (io), 6 RC7 (io), 7 RB7 (io), 8 RB6 (io), 9 RB5 (io), 10 RB4 (io), 11 RC2 (io), 12 RC1 (io), 13 RC0 (io), 14 RA2 (io), 15 RA1/ICSPCLK (io), 16 RA0/ICSPDAT (io), 17 VSS (power) "Ground reference.", 18 VDD (power) "Positive supply.", 19 RA5 (io), 20 RA4 (io), 21 EP

## PIC16F1828T-I/SO
designator U?
Flash Microcontroller with XLP Technology, 32 MHz, 17 I/O, -40 to 85 degC, 20-pin SOIC (SO20), Tape and Reel; Manufacturer: Microchip; PartNumber: PIC16F1828T-I/SO; # of A/D Channels: 12; Digital Communication: 1 -A/E/USART, 1 -MSSP(SPI/I2C); EEPROM Data Memory (bytes): 256; I/O Pins: 17; Internal Oscillator: 32 MHz, 31 kHz; Max. CPU Speed MHz: 32; Operation Voltage Range: 1.8V - 5.5V; Packing: T/R; Program Memory KBytes: 7; Program Memory KWords: 4; Timers: 4 - 8-bit, 1 - 16-bit; DatasheetVersion: Rev. D; PackageVersion: C04-094C, 12/2012; PackageReference: SOIC-SO20; PackageDescription: 20-Lead Plastic Small Outline, 7.5 x 12.8 mm Body, 1.27 mm Pitch; Supplier 1: Digi-Key; Supplier Part Number 1: PIC16F1828T-I/SO-ND; Supplier 2: Newark; Supplier Part Number 2: 73R8387; Supplier 3: Mouser; Supplier Part Number 3: 579-PIC16F1828TISO; Memory Type: Flash; RAM: 256; RoHS: TRUE; Mounting Technology: Surface Mount; ComponentLink1Description: Datasheet; ComponentLink1URL: http://ww1.microchip.com/downloads/en/DeviceDoc/41419D.pdf; ComponentLink2Description: Package Specification; ComponentLink2URL: http://www.microchip.com/stellent/groups/techpub_sg/documents/packagingspec/en012702.pdf; ComponentLink3Description: URL Link1; ComponentLink3URL: Product URL:http://www.microchip.com/datasheet/PIC16F1828
footprint MCHP-SOIC-SO20_N (SOIC, 20-Leads, Body 12.8x7.5mm, Pitch 1.27mm, IPC Medium Density)
footprint MCHP-SOIC-SO20_L (SOIC, 20-Leads, Body 12.8x7.5mm, Pitch 1.27mm, IPC High Density)
footprint MCHP-SOIC-SO20_M (SOIC, 20-Leads, Body 12.8x7.5mm, Pitch 1.27mm, IPC Low Density)
pins: 1 VDD (power) "Positive supply.", 2 RA5 (io), 3 RA4 (io), 4 RA3/~{MCLR}/VPP (in), 5 RC5 (io), 6 RC4 (io), 7 RC3 (io), 8 RC6 (io), 9 RC7 (io), 10 RB7 (io), 11 RB6 (io), 12 RB5 (io), 13 RB4 (io), 14 RC2 (io), 15 RC1 (io), 16 RC0 (io), 17 RA2 (io), 18 RA1/ICSPCLK (io), 19 RA0/ICSPDAT (io), 20 VSS (power) "Ground reference."

## PIC16F1828T-I/SS
designator U?
Flash Microcontroller with XLP Technology, 32 MHz, 17 I/O, -40 to 85 degC, 20-pin SSOP (SS20), Tape and Reel; Manufacturer: Microchip; PartNumber: PIC16F1828T-I/SS; # of A/D Channels: 12; Digital Communication: 1 -A/E/USART, 1 -MSSP(SPI/I2C); EEPROM Data Memory (bytes): 256; I/O Pins: 17; Internal Oscillator: 32 MHz, 31 kHz; Max. CPU Speed MHz: 32; Operation Voltage Range: 1.8V - 5.5V; Packing: T/R; Program Memory KBytes: 7; Program Memory KWords: 4; Timers: 4 - 8-bit, 1 - 16-bit; DatasheetVersion: Rev. D; PackageVersion: C04-072B, 12/2012; PackageReference: SSOP-SS20; PackageDescription: 20-Lead Plastic Shrink Small Outline, 5.3 x 7.2 mm Body, 0.65 mm Pitch; Supplier 1: Digi-Key; Supplier Part Number 1: PIC16F1828T-I/SS-ND; Supplier 2: Newark; Supplier Part Number 2: 73R8388; Supplier 3: Mouser; Supplier Part Number 3: 579-PIC16F1828TISS; Memory Type: Flash; RAM: 256; RoHS: TRUE; Mounting Technology: Surface Mount; ComponentLink1Description: Datasheet; ComponentLink1URL: http://ww1.microchip.com/downloads/en/DeviceDoc/41419D.pdf; ComponentLink2Description: Package Specification; ComponentLink2URL: http://www.microchip.com/stellent/groups/techpub_sg/documents/packagingspec/en012702.pdf; ComponentLink3Description: URL Link1; ComponentLink3URL: Product URL:http://www.microchip.com/datasheet/PIC16F1828
footprint MCHP-SSOP-SS20_N (SOP, 20-Leads, Body 7.2x5.3mm, Pitch 0.65mm, IPC Medium Density)
footprint MCHP-SSOP-SS20_L (SOP, 20-Leads, Body 7.2x5.3mm, Pitch 0.65mm, IPC High Density)
footprint MCHP-SSOP-SS20_M (SOP, 20-Leads, Body 7.2x5.3mm, Pitch 0.65mm, IPC Low Density)
pins: 1 VDD (power) "Positive supply.", 2 RA5 (io), 3 RA4 (io), 4 RA3/~{MCLR}/VPP (in), 5 RC5 (io), 6 RC4 (io), 7 RC3 (io), 8 RC6 (io), 9 RC7 (io), 10 RB7 (io), 11 RB6 (io), 12 RB5 (io), 13 RB4 (io), 14 RC2 (io), 15 RC1 (io), 16 RC0 (io), 17 RA2 (io), 18 RA1/ICSPCLK (io), 19 RA0/ICSPDAT (io), 20 VSS (power) "Ground reference."

## PIC16F1829-E/ML
designator U?
Flash Microcontroller with XLP Technology, 32 MHz, 17 I/O, -40 to 125 degC, 20-pin QFN (ML20), Tube; Manufacturer: Microchip; PartNumber: PIC16F1829-E/ML; # of A/D Channels: 12; Digital Communication: 1 -A/E/USART, 2 -MSSP(SPI/I2C); EEPROM Data Memory (bytes): 256; I/O Pins: 17; Internal Oscillator: 32 MHz, 31 kHz; Max. CPU Speed MHz: 32; Operation Voltage Range: 1.8V - 5.5V; Program Memory KBytes: 14; Program Memory KWords: 8; RAM: 1024; Timers: 4 - 8-bit, 1 - 16-bit; DatasheetVersion: Rev. C; PackageVersion: C04-126B, 12/2012; PackageReference: QFN-ML20; PackageDescription: 20-Lead Plastic Quad Flat, No Lead Package, 4 x 4 mm Body, 0.5 mm Pitch; Supplier 1: Digi-Key; Supplier Part Number 1: PIC16F1829-E/ML-ND; Supplier 2: Newark; Supplier Part Number 2: 82R4377; Supplier 3: Mouser; Supplier Part Number 3: 579-PIC16F1829-E/ML; Memory Type: Flash; Packing: TUBE; RoHS: TRUE; Mounting Technology: Surface Mount; ComponentLink1Description: Datasheet; ComponentLink1URL: http://ww1.microchip.com/downloads/en/DeviceDoc/41440C.pdf; ComponentLink2Description: Package Specification; ComponentLink2URL: http://www.microchip.com/stellent/groups/techpub_sg/documents/packagingspec/en012702.pdf; ComponentLink3Description: URL Link1; ComponentLink3URL: Product URL:http://www.microchip.com/datasheet/PIC16F1829
footprint MCHP-QFN-ML20_N (QFN, 20-Leads, Body 4x4mm, Pitch 0.5mm, Thermal Pad 2.7x2.7mm, IPC Medium Density)
footprint MCHP-QFN-ML20_L (QFN, 20-Leads, Body 4x4mm, Pitch 0.5mm, Thermal Pad 2.7x2.7mm, IPC High Density)
footprint MCHP-QFN-ML20_M (QFN, 20-Leads, Body 4x4mm, Pitch 0.5mm, Thermal Pad 2.7x2.7mm, IPC Low Density)
pins: 1 RA3/~{MCLR}/VPP (in), 2 RC5 (io), 3 RC4 (io), 4 RC3 (io), 5 RC6 (io), 6 RC7 (io), 7 RB7 (io), 8 RB6 (io), 9 RB5 (io), 10 RB4 (io), 11 RC2 (io), 12 RC1 (io), 13 RC0 (io), 14 RA2 (io), 15 RA1/ICSPCLK (io), 16 RA0/ICSPDAT (io), 17 VSS (power) "Ground reference.", 18 VDD (power) "Positive supply.", 19 RA5 (io), 20 RA4 (io), 21 EP

## PIC16F1829-E/P
designator U?
Flash Microcontroller with XLP Technology, 32 MHz, 17 I/O, -40 to 125 degC, 20-pin PDIP (P20), Tube; Manufacturer: Microchip; PartNumber: PIC16F1829-E/P; # of A/D Channels: 12; Digital Communication: 1 -A/E/USART, 2 -MSSP(SPI/I2C); EEPROM Data Memory (bytes): 256; I/O Pins: 17; Internal Oscillator: 32 MHz, 31 kHz; Max. CPU Speed MHz: 32; Operation Voltage Range: 1.8V - 5.5V; Program Memory KBytes: 14; Program Memory KWords: 8; RAM: 1024; Timers: 4 - 8-bit, 1 - 16-bit; DatasheetVersion: Rev. C; PackageVersion: C04-019B, 12/2012; PackageReference: PDIP-P20; PackageDescription: 20-Lead Plastic Dual In-Line, Row Spacing 7.62 mm, 25.91 x 6.6 mm Body, 2.54 mm Pitch; Supplier 1: Digi-Key; Supplier Part Number 1: PIC16F1829-E/P-ND; Supplier 2: Mouser; Supplier Part Number 2: 579-PIC16F1829-E/P; Memory Type: Flash; Packing: TUBE; RoHS: TRUE; Mounting Technology: Through Hole; ComponentLink1Description: Datasheet; ComponentLink1URL: http://ww1.microchip.com/downloads/en/DeviceDoc/41440C.pdf; ComponentLink2Description: Package Specification; ComponentLink2URL: http://www.microchip.com/stellent/groups/techpub_sg/documents/packagingspec/en012702.pdf; ComponentLink3Description: URL Link1; ComponentLink3URL: Product URL:http://www.microchip.com/datasheet/PIC16F1829
footprint MCHP-PDIP-P20 (DIP, 20-Leads, Body 25.91x6.6mm, Pitch 2.54mm)
pins: 1 VDD (power) "Positive supply.", 2 RA5 (io), 3 RA4 (io), 4 RA3/~{MCLR}/VPP (in), 5 RC5 (io), 6 RC4 (io), 7 RC3 (io), 8 RC6 (io), 9 RC7 (io), 10 RB7 (io), 11 RB6 (io), 12 RB5 (io), 13 RB4 (io), 14 RC2 (io), 15 RC1 (io), 16 RC0 (io), 17 RA2 (io), 18 RA1/ICSPCLK (io), 19 RA0/ICSPDAT (io), 20 VSS (power) "Ground reference."

## PIC16F1829-E/SO
designator U?
Flash Microcontroller with XLP Technology, 32 MHz, 17 I/O, -40 to 125 degC, 20-pin SOIC (SO20), Tube; Manufacturer: Microchip; PartNumber: PIC16F1829-E/SO; # of A/D Channels: 12; Digital Communication: 1 -A/E/USART, 2 -MSSP(SPI/I2C); EEPROM Data Memory (bytes): 256; I/O Pins: 17; Internal Oscillator: 32 MHz, 31 kHz; Max. CPU Speed MHz: 32; Operation Voltage Range: 1.8V - 5.5V; Program Memory KBytes: 14; Program Memory KWords: 8; RAM: 1024; Timers: 4 - 8-bit, 1 - 16-bit; DatasheetVersion: Rev. C; PackageVersion: C04-094C, 12/2012; PackageReference: SOIC-SO20; PackageDescription: 20-Lead Plastic Small Outline, 7.5 x 12.8 mm Body, 1.27 mm Pitch; Supplier 1: Digi-Key; Supplier Part Number 1: PIC16F1829-E/SO-ND; Supplier 2: Mouser; Supplier Part Number 2: 579-PIC16F1829-E/SO; Memory Type: Flash; Packing: TUBE; RoHS: TRUE; Mounting Technology: Surface Mount; ComponentLink1Description: Datasheet; ComponentLink1URL: http://ww1.microchip.com/downloads/en/DeviceDoc/41440C.pdf; ComponentLink2Description: Package Specification; ComponentLink2URL: http://www.microchip.com/stellent/groups/techpub_sg/documents/packagingspec/en012702.pdf; ComponentLink3Description: URL Link1; ComponentLink3URL: Product URL:http://www.microchip.com/datasheet/PIC16F1829
footprint MCHP-SOIC-SO20_N (SOIC, 20-Leads, Body 12.8x7.5mm, Pitch 1.27mm, IPC Medium Density)
footprint MCHP-SOIC-SO20_L (SOIC, 20-Leads, Body 12.8x7.5mm, Pitch 1.27mm, IPC High Density)
footprint MCHP-SOIC-SO20_M (SOIC, 20-Leads, Body 12.8x7.5mm, Pitch 1.27mm, IPC Low Density)
pins: 1 VDD (power) "Positive supply.", 2 RA5 (io), 3 RA4 (io), 4 RA3/~{MCLR}/VPP (in), 5 RC5 (io), 6 RC4 (io), 7 RC3 (io), 8 RC6 (io), 9 RC7 (io), 10 RB7 (io), 11 RB6 (io), 12 RB5 (io), 13 RB4 (io), 14 RC2 (io), 15 RC1 (io), 16 RC0 (io), 17 RA2 (io), 18 RA1/ICSPCLK (io), 19 RA0/ICSPDAT (io), 20 VSS (power) "Ground reference."

## PIC16F1829-E/SS
designator U?
Flash Microcontroller with XLP Technology, 32 MHz, 17 I/O, -40 to 125 degC, 20-pin SSOP (SS20), Tube; Manufacturer: Microchip; PartNumber: PIC16F1829-E/SS; # of A/D Channels: 12; Digital Communication: 1 -A/E/USART, 2 -MSSP(SPI/I2C); EEPROM Data Memory (bytes): 256; I/O Pins: 17; Internal Oscillator: 32 MHz, 31 kHz; Max. CPU Speed MHz: 32; Operation Voltage Range: 1.8V - 5.5V; Program Memory KBytes: 14; Program Memory KWords: 8; RAM: 1024; Timers: 4 - 8-bit, 1 - 16-bit; DatasheetVersion: Rev. C; PackageVersion: C04-072B, 12/2012; PackageReference: SSOP-SS20; PackageDescription: 20-Lead Plastic Shrink Small Outline, 5.3 x 7.2 mm Body, 0.65 mm Pitch; Supplier 1: Digi-Key; Supplier Part Number 1: PIC16F1829-E/SS-ND; Supplier 2: Newark; Supplier Part Number 2: 82R4380; Supplier 3: Mouser; Supplier Part Number 3: 579-PIC16F1829-E/SS; Memory Type: Flash; Packing: TUBE; RoHS: TRUE; Mounting Technology: Surface Mount; ComponentLink1Description: Datasheet; ComponentLink1URL: http://ww1.microchip.com/downloads/en/DeviceDoc/41440C.pdf; ComponentLink2Description: Package Specification; ComponentLink2URL: http://www.microchip.com/stellent/groups/techpub_sg/documents/packagingspec/en012702.pdf; ComponentLink3Description: URL Link1; ComponentLink3URL: Product URL:http://www.microchip.com/datasheet/PIC16F1829
footprint MCHP-SSOP-SS20_N (SOP, 20-Leads, Body 7.2x5.3mm, Pitch 0.65mm, IPC Medium Density)
footprint MCHP-SSOP-SS20_L (SOP, 20-Leads, Body 7.2x5.3mm, Pitch 0.65mm, IPC High Density)
footprint MCHP-SSOP-SS20_M (SOP, 20-Leads, Body 7.2x5.3mm, Pitch 0.65mm, IPC Low Density)
pins: 1 VDD (power) "Positive supply.", 2 RA5 (io), 3 RA4 (io), 4 RA3/~{MCLR}/VPP (in), 5 RC5 (io), 6 RC4 (io), 7 RC3 (io), 8 RC6 (io), 9 RC7 (io), 10 RB7 (io), 11 RB6 (io), 12 RB5 (io), 13 RB4 (io), 14 RC2 (io), 15 RC1 (io), 16 RC0 (io), 17 RA2 (io), 18 RA1/ICSPCLK (io), 19 RA0/ICSPDAT (io), 20 VSS (power) "Ground reference."

## PIC16F1829-I/ML
designator U?
Flash Microcontroller with XLP Technology, 32 MHz, 17 I/O, -40 to 85 degC, 20-pin QFN (ML20), Tube; Manufacturer: Microchip; PartNumber: PIC16F1829-I/ML; # of A/D Channels: 12; Digital Communication: 1 -A/E/USART, 2 -MSSP(SPI/I2C); EEPROM Data Memory (bytes): 256; I/O Pins: 17; Internal Oscillator: 32 MHz, 31 kHz; Max. CPU Speed MHz: 32; Operation Voltage Range: 1.8V - 5.5V; Program Memory KBytes: 14; Program Memory KWords: 8; RAM: 1024; Timers: 4 - 8-bit, 1 - 16-bit; DatasheetVersion: Rev. C; PackageVersion: C04-126B, 12/2012; PackageReference: QFN-ML20; PackageDescription: 20-Lead Plastic Quad Flat, No Lead Package, 4 x 4 mm Body, 0.5 mm Pitch; Supplier 1: Digi-Key; Supplier Part Number 1: PIC16F1829-I/ML-ND; Supplier 2: Newark; Supplier Part Number 2: 82R4381; Supplier 3: Mouser; Supplier Part Number 3: 579-PIC16F1829-I/ML; Memory Type: Flash; Packing: TUBE; RoHS: TRUE; Mounting Technology: Surface Mount; ComponentLink1Description: Datasheet; ComponentLink1URL: http://ww1.microchip.com/downloads/en/DeviceDoc/41440C.pdf; ComponentLink2Description: Package Specification; ComponentLink2URL: http://www.microchip.com/stellent/groups/techpub_sg/documents/packagingspec/en012702.pdf; ComponentLink3Description: URL Link1; ComponentLink3URL: Product URL:http://www.microchip.com/datasheet/PIC16F1829
footprint MCHP-QFN-ML20_N (QFN, 20-Leads, Body 4x4mm, Pitch 0.5mm, Thermal Pad 2.7x2.7mm, IPC Medium Density)
footprint MCHP-QFN-ML20_L (QFN, 20-Leads, Body 4x4mm, Pitch 0.5mm, Thermal Pad 2.7x2.7mm, IPC High Density)
footprint MCHP-QFN-ML20_M (QFN, 20-Leads, Body 4x4mm, Pitch 0.5mm, Thermal Pad 2.7x2.7mm, IPC Low Density)
pins: 1 RA3/~{MCLR}/VPP (in), 2 RC5 (io), 3 RC4 (io), 4 RC3 (io), 5 RC6 (io), 6 RC7 (io), 7 RB7 (io), 8 RB6 (io), 9 RB5 (io), 10 RB4 (io), 11 RC2 (io), 12 RC1 (io), 13 RC0 (io), 14 RA2 (io), 15 RA1/ICSPCLK (io), 16 RA0/ICSPDAT (io), 17 VSS (power) "Ground reference.", 18 VDD (power) "Positive supply.", 19 RA5 (io), 20 RA4 (io), 21 EP

## PIC16F1829-I/P
designator U?
Flash Microcontroller with XLP Technology, 32 MHz, 17 I/O, -40 to 85 degC, 20-pin PDIP (P20), Tube; Manufacturer: Microchip; PartNumber: PIC16F1829-I/P; # of A/D Channels: 12; Digital Communication: 1 -A/E/USART, 2 -MSSP(SPI/I2C); EEPROM Data Memory (bytes): 256; I/O Pins: 17; Internal Oscillator: 32 MHz, 31 kHz; Max. CPU Speed MHz: 32; Operation Voltage Range: 1.8V - 5.5V; Program Memory KBytes: 14; Program Memory KWords: 8; RAM: 1024; Timers: 4 - 8-bit, 1 - 16-bit; DatasheetVersion: Rev. C; PackageVersion: C04-019B, 12/2012; PackageReference: PDIP-P20; PackageDescription: 20-Lead Plastic Dual In-Line, Row Spacing 7.62 mm, 25.91 x 6.6 mm Body, 2.54 mm Pitch; Supplier 1: Digi-Key; Supplier Part Number 1: PIC16F1829-I/P-ND; Supplier 2: Farnell; Supplier Part Number 2: 1841451; Supplier 3: Newark; Supplier Part Number 3: 82R4382; Supplier 4: Newark; Supplier Part Number 4: 83T7225; Supplier 5: Mouser; Supplier Part Number 5: 579-PIC16F1829-I/P; Memory Type: Flash; Packing: TUBE; RoHS: TRUE; Mounting Technology: Through Hole; ComponentLink1Description: Datasheet; ComponentLink1URL: http://ww1.microchip.com/downloads/en/DeviceDoc/41440C.pdf; ComponentLink2Description: Package Specification; ComponentLink2URL: http://www.microchip.com/stellent/groups/techpub_sg/documents/packagingspec/en012702.pdf; ComponentLink3Description: URL Link1; ComponentLink3URL: Product URL:http://www.microchip.com/datasheet/PIC16F1829
footprint MCHP-PDIP-P20 (DIP, 20-Leads, Body 25.91x6.6mm, Pitch 2.54mm)
pins: 1 VDD (power) "Positive supply.", 2 RA5 (io), 3 RA4 (io), 4 RA3/~{MCLR}/VPP (in), 5 RC5 (io), 6 RC4 (io), 7 RC3 (io), 8 RC6 (io), 9 RC7 (io), 10 RB7 (io), 11 RB6 (io), 12 RB5 (io), 13 RB4 (io), 14 RC2 (io), 15 RC1 (io), 16 RC0 (io), 17 RA2 (io), 18 RA1/ICSPCLK (io), 19 RA0/ICSPDAT (io), 20 VSS (power) "Ground reference."